# Altium footprint library pcblibrary.PcbLib: 11 footprints
Each footprint in its own frame and in the unit in brackets; x right, y up, seen from the top. Pads: shape width x height; smd on the part's side, far side on the other; paste and mask are expansions set on the pad; w line width, h text height; cw(c..) or ccw(c..) is an arc to the next point about the centre after c.
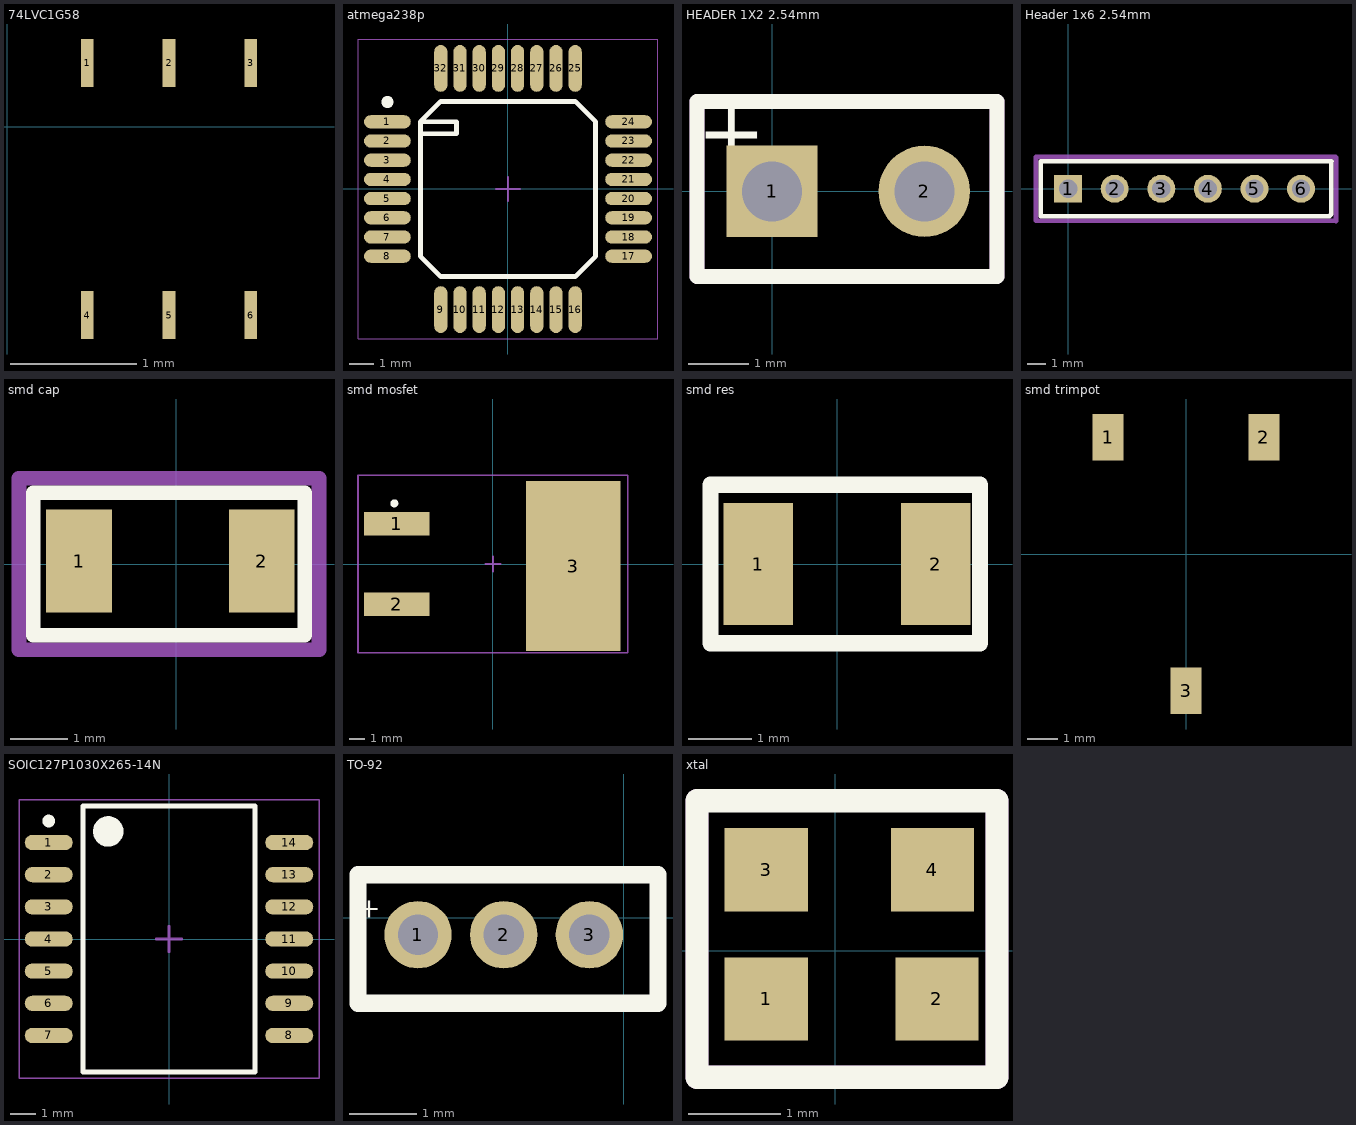
[diagram p0: the footprints below, top view; thin cyan lines are the x and y axes]

## 74LVC1G58 [mm]
pads (6):
  rect 0.1x0.38 smd: 1(0.635,0.508) 2(1.285,0.508) 3(1.935,0.508) 4(0.635,-1.492) 5(1.285,-1.492) 6(1.935,-1.492)
3D body "User Library-R-PDSO-G6.step": height 1.1, standoff 0, extent 0.27,-1.835 2.27,0.565

## atmega238p [mm] "CQFP, 32-Leads, Body 11,15x11,15mm, Pitch 0,80mm, IPC Medium Density"
height 1.2
pads (32):
  oval 1.95x0.55 smd mask+0.05: 1(-5.025,2.8) 2(-5.025,2) 3(-5.025,1.2) 4(-5.025,0.4) 5(-5.025,-0.4) 6(-5.025,-1.2) 7(-5.025,-2) 8(-5.025,-2.8) 17(5.025,-2.8) 18(5.025,-2) 19(5.025,-1.2) 20(5.025,-0.4) 21(5.025,0.4) 22(5.025,1.2) 23(5.025,2) 24(5.025,2.8)
  oval 0.55x1.95 smd mask+0.05: 9(-2.8,-5.025) 10(-2,-5.025) 11(-1.2,-5.025) 12(-0.4,-5.025) 13(0.4,-5.025) 14(1.2,-5.025) 15(2,-5.025) 16(2.8,-5.025) 25(2.8,5.025) 26(2,5.025) 27(1.2,5.025) 28(0.4,5.025) 29(-0.4,5.025) 30(-1.2,5.025) 31(-2,5.025) 32(-2.8,5.025)
Top Overlay:
  circle w0.25: c-5.025,3.625 r0.125
  lines w0.2: -3.65,2.3 -2.15,2.3 -2.15,2.8 -3.65,2.8 ; -3.65,2.8 -2.8,3.65 2.8,3.65 3.65,2.8 3.65,-2.8 2.8,-3.65 -2.8,-3.65 -3.65,-2.8 -3.65,2.8
Mechanical 3:
  lines w0.05: -6.25,-6.25 6.25,-6.25 6.25,6.25 -6.25,6.25 -6.25,-6.25
  lines w0.1: -0.5,0 0.5,0 ; 0,-0.5 0,0.5
3D body: height 1.2, standoff 0.25, extent -3.5,-3.5 3.5,3.5

## HEADER 1X2 2.54mm [mil]
pads (2):
  rect 60x60 hole 39.37: 1(0,0)
  round 60 hole 39.37: 2(100,0)
Top Overlay:
  lines w10: -49.21,-55.9 -49.21,59.06 147.64,59.06 147.64,-55.9 -49.21,-55.9
  text "+" at -49.21,19.68 h39.37
Mechanical 3:
  lines w10: -49.21,59.06 -49.21,-55.9 147.64,-55.9 147.64,59.06
3D body "User Library-Header 2x1 2_54mm.step": height 334.65, standoff -102.36, extent -49.21,-55.9 147.64,55.91

## Header 1x6 2.54mm [mil]
pads (6):
  rect 60x60 hole 39.37: 1(0,0)
  round 60 hole 39.37: 2(100,0) 3(200,0) 4(300,0) 5(400,0) 6(500,0)
Top Overlay:
  lines w10: -59.06,-59.06 452.76,-59.06 560.94,-59.06 565,-55 565,58.11 565.94,59.06 452.76,59.06 442.91,59.06 -59.06,59.06 -59.06,-59.06
Mechanical 3:
  lines w10: -68.9,-68.9 -68.9,68.9 462.6,68.9 573.9,68.9 575,67.8 575,-70 573.9,-68.9 462.6,-68.9 -59.06,-68.9 -68.9,-68.9
3D body "User Library-Header_Fem_1X6.step": height 413.39, standoff -47.24, extent -59.84,-50 559.84,50

## smd cap [mm]
pads (2):
  rect 1.15x1.8 smd: 1(-1.7,0.05) 2(1.5,0.05)
Top Overlay:
  lines w0.254: -2.5,-1.25 -2.5,1.25 2.25,1.25 2.25,-1.25 -2.5,-1.25
Mechanical 3:
  lines w0.254: -2.75,-1.5 2.25,-1.5 2.5,-1.5 2.5,1.5 -2.75,1.5 -2.75,-1.5
3D body "C1206C100J5GACTU.stp": height 0.88, standoff 0, extent -1.7,-0.75 1.5,0.85

## smd mosfet [mm] "D2-PAK, 3-Pads, Body 7,91x8,70mm (max), IPC Medium Density"
height 2.38
pads (3):
  rect 4.15x1.5 smd paste+0 mask+0.1: 1(-6.096,2.54)
  rect 4.15x1.5 smd: 2(-6.096,-2.54)
  rect 6x10.75 smd: 3(5.08,-0.127)
Top Overlay:
  circle w0.25: c-6.25,3.84 r0.125
Mechanical 3:
  lines w0.1: -0.5,0 0.5,0 ; 0,-0.5 0,0.5 ; -8.55,-5.625 -8.55,5.625 8.55,5.625 8.55,-5.625 -8.55,-5.625
3D body "DPAK254P1524X238-3N.step": height 2.51, standoff 0, extent -6.7,-5.325 8.545,5.325

## smd res [mm]
pads (2):
  rect 1.1x1.93 smd: 1(-1.25,0) 2(1.55,0)
Top Overlay:
  lines w0.254: -2,-1.25 -0.75,-1.25 2.25,-1.25 2.25,1.25 -2,1.25 -2,-1.25
3D body "User Library-CR3216-1206.step": height 0.6, standoff 0, extent -1.35,-0.8 1.85,0.8

## smd trimpot [mm]
pads (3):
  rect 1x1.521 smd: 1(-2.54,3.81) 2(2.54,3.81) 3(0,-4.445)
3D body "User Library-Trimpot smd V50.step": height 6.6, standoff 0.86, extent -5.22,-5.558 5.08,5.334

## SOIC127P1030X265-14N [mm] "SOIC, 14-Leads, Body 10,30x7,50mm, Pitch 1,27mm, IPC Medium Density"
height 2.65
pads (14):
  oval 1.9x0.6 smd: 1(-4.75,3.81) 2(-4.75,2.54) 3(-4.75,1.27) 4(-4.75,0) 5(-4.75,-1.27) 6(-4.75,-2.54) 7(-4.75,-3.81) 8(4.75,-3.81) 9(4.75,-2.54) 10(4.75,-1.27) 11(4.75,0) 12(4.75,1.27) 13(4.75,2.54) 14(4.75,3.81)
Top Overlay:
  circle w0.25: c-4.75,4.66 r0.125
  circle w0.6: c-2.4,4.25 r0.3
  lines w0.2: -3.4,-5.25 -3.4,5.25 3.4,5.25 3.4,-5.25 -3.4,-5.25
Mechanical 3:
  lines w0.05: -5.925,-5.5 -5.925,5.5 5.925,5.5 5.925,-5.5 -5.925,-5.5
  lines w0.1: -0.5,0 0.5,0 ; 0,-0.5 0,0.5
3D body "SOIC127P1030X265-14N.step": height 2.65, standoff 0, extent -5.15,-5.25 5.15,5.25

## TO-92 [mm]
pads (3):
  round 1 hole 0.6: 1(-3.048,-0.254) 2(-1.778,-0.254) 3(-0.508,-0.254)
Top Overlay:
  lines w0.254: -3.937,-1.27 0.381,-1.27 0.508,-1.27 0.508,0.635 -3.937,0.635 -3.937,-1.27
  text "+" at -3.937,0 h0.3
3D body "User Library-BC547 Transistors NPN TO-92 3L (2,54mm).step": height 6.83, standoff -12.7, extent -4.158,-1.598 0.602,2.032

## xtal [mm]
pads (4):
  rect 0.9x0.9 smd: 1(-0.75,-0.523) 2(1.1,-0.523) 3(-0.75,0.877) 4(1.05,0.877)
Top Overlay:
  lines w0.254: -1.5,-1.373 -1.25,-1.373 1.75,-1.373 1.75,1.627 -1.5,1.627 -1.5,-1.373
Mechanical 3:
  lines w0.254: -1.5,1.627 -1.5,-1.373 1.75,-1.373 1.75,1.627
3D body "2520 SMD Crystal Oscillator.STEP": height 0.65, standoff -0.05, extent -1,-0.873 1.5,1.127